# Altium footprint library 2017-10-25_16-50-50.PcbLib: 3 footprints
Each footprint in its own frame and in the unit in brackets; x right, y up, seen from the top. Pads: shape width x height; smd on the part's side, far side on the other; paste and mask are expansions set on the pad; w line width, h text height; cw(c..) or ccw(c..) is an arc to the next point about the centre after c.
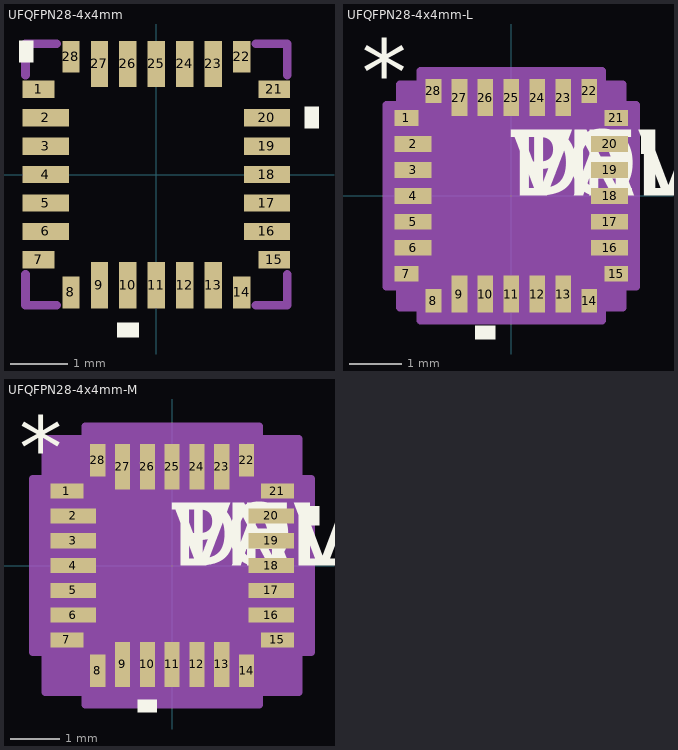
[diagram p0: the footprints below, top view; thin cyan lines are the x and y axes]

## UFQFPN28-4x4mm [mil]
pads (28):
  rect 22x12 smd paste-6: 1(-81.5,59.06) 7(-81.5,-59.06) 15(81.5,-59.06) 21(81.5,59.06)
  rect 32x12 smd: 2(-76.5,39.37) 3(-76.5,19.68) 4(-76.5,0) 5(-76.5,-19.68) 6(-76.5,-39.37) 16(76.5,-39.37) 17(76.5,-19.68) 18(76.5,0) 19(76.5,19.68) 20(76.5,39.37)
  rect 12x22 smd paste-6: 8(-59.06,-81.5) 14(59.06,-81.5) 22(59.06,81.5) 28(-59.06,81.5)
  rect 12x32 smd: 9(-39.37,-76.5) 10(-19.68,-76.5) 11(0,-76.5) 12(19.68,-76.5) 13(39.37,-76.5) 23(39.37,76.5) 24(19.68,76.5) 25(0,76.5) 26(-19.68,76.5) 27(-39.37,76.5)
Top Overlay:
  region: -12.19,-102.5 -27.18,-102.5 -27.18,-112.5 -12.19,-112.5
  region: 102.5,46.87 112.5,46.87 112.5,31.87 102.5,31.87
  region: -95,92.5 -85,92.5 -85,77.5 -95,77.5
Mechanical 15:
  lines w6: -90.5,-68.9 -90.5,-90.5 -68.9,-90.5 ; -90.5,68.9 -90.5,90.5 -68.9,90.5 ; 68.9,-90.5 90.5,-90.5 90.5,-68.9 ; 68.9,90.5 90.5,90.5 90.5,68.9

## UFQFPN28-4x4mm-L [mil]
pads (28):
  rect 18x12 smd: 1(-79.5,59.06) 7(-79.5,-59.06) 15(79.5,-59.06) 21(79.5,59.06)
  rect 28x12 smd: 2(-74.5,39.37) 3(-74.5,19.68) 4(-74.5,0) 5(-74.5,-19.68) 6(-74.5,-39.37) 16(74.5,-39.37) 17(74.5,-19.68) 18(74.5,0) 19(74.5,19.68) 20(74.5,39.37)
  rect 12x18 smd: 8(-59.06,-79.5) 14(59.06,-79.5) 22(59.06,79.5) 28(-59.06,79.5)
  rect 12x28 smd: 9(-39.37,-74.5) 10(-19.68,-74.5) 11(0,-74.5) 12(19.68,-74.5) 13(39.37,-74.5) 23(39.37,74.5) 24(19.68,74.5) 25(0,74.5) 26(-19.68,74.5) 27(-39.37,74.5)
Top Overlay:
  region: -12.19,-98.5 -27.18,-98.5 -27.18,-108.5 -12.19,-108.5
  region: 98.5,46.87 108.5,46.87 108.5,31.87 98.5,31.87
  text "*" at -113.5,68.9 h50
  text "PN" at 0,0 h50
  text "DEV" at 0,0 h50
  text "VAL" at 0,0 h50
  text "TOL" at 0,0 h50
Mechanical 13:
  text "*" at -60.5,68.9 h50
  text "RefDes2" at 0,0 h50
Mechanical 15:
  region: -68.9,-84.5 -84.5,-84.5 -84.5,-68.9 -94.5,-68.9 -94.5,68.9 -84.5,68.9 -84.5,84.5 -68.9,84.5 -68.9,94.5 68.9,94.5 68.9,84.5 84.5,84.5 84.5,68.9 94.5,68.9 94.5,-68.9 84.5,-68.9 84.5,-84.5 68.9,-84.5 68.9,-94.5 -68.9,-94.5
  lines w6: -94.5,-68.9 -84.5,-68.9 -84.5,-84.5 -68.9,-84.5 -68.9,-94.5 68.9,-94.5 68.9,-84.5 84.5,-84.5 84.5,-68.9 94.5,-68.9 94.5,68.9 84.5,68.9 84.5,84.5 68.9,84.5 68.9,94.5 -68.9,94.5 -68.9,84.5 -84.5,84.5 -84.5,68.9 -94.5,68.9 -94.5,-68.9
Multi-Layer:
  text "Copyright (C) 2016 Accelerated Designs. All rights reserved" at 0,0 h1
3D body: height 10, standoff 0, extent 0,0 10,10

## UFQFPN28-4x4mm-M [mil]
pads (28):
  rect 26x12 smd: 1(-83.5,59.06) 7(-83.5,-59.06) 15(83.5,-59.06) 21(83.5,59.06)
  rect 36x12 smd: 2(-78.5,39.37) 3(-78.5,19.68) 4(-78.5,0) 5(-78.5,-19.68) 6(-78.5,-39.37) 16(78.5,-39.37) 17(78.5,-19.68) 18(78.5,0) 19(78.5,19.68) 20(78.5,39.37)
  rect 12x26 smd: 8(-59.06,-83.5) 14(59.06,-83.5) 22(59.06,83.5) 28(-59.06,83.5)
  rect 12x36 smd: 9(-39.37,-78.5) 10(-19.68,-78.5) 11(0,-78.5) 12(19.68,-78.5) 13(39.37,-78.5) 23(39.37,78.5) 24(19.68,78.5) 25(0,78.5) 26(-19.68,78.5) 27(-39.37,78.5)
Top Overlay:
  region: -12.19,-106.5 -27.18,-106.5 -27.18,-116.5 -12.19,-116.5
  region: 106.5,46.87 116.5,46.87 116.5,31.87 106.5,31.87
  text "*" at -121.5,68.9 h50
  text "PN" at 0,0 h50
  text "DEV" at 0,0 h50
  text "VAL" at 0,0 h50
  text "TOL" at 0,0 h50
Mechanical 13:
  text "*" at -60.5,68.9 h50
  text "RefDes2" at 0,0 h50
Mechanical 15:
  region: -68.9,-100.5 -100.5,-100.5 -100.5,-68.9 -110.5,-68.9 -110.5,68.9 -100.5,68.9 -100.5,100.5 -68.9,100.5 -68.9,110.5 68.9,110.5 68.9,100.5 100.5,100.5 100.5,68.9 110.5,68.9 110.5,-68.9 100.5,-68.9 100.5,-100.5 68.9,-100.5 68.9,-110.5 -68.9,-110.5
  lines w6: -110.5,-68.9 -100.5,-68.9 -100.5,-100.5 -68.9,-100.5 -68.9,-110.5 68.9,-110.5 68.9,-100.5 100.5,-100.5 100.5,-68.9 110.5,-68.9 110.5,68.9 100.5,68.9 100.5,100.5 68.9,100.5 68.9,110.5 -68.9,110.5 -68.9,100.5 -100.5,100.5 -100.5,68.9 -110.5,68.9 -110.5,-68.9
Multi-Layer:
  text "Copyright (C) 2016 Accelerated Designs. All rights reserved" at 0,0 h1
3D body: height 10, standoff 0, extent 0,0 10,10